# Altium integrated library Analog Devices Data Converters Digital-to-Analog Converters.IntLib: 2231 symbols (part 53 of 181)
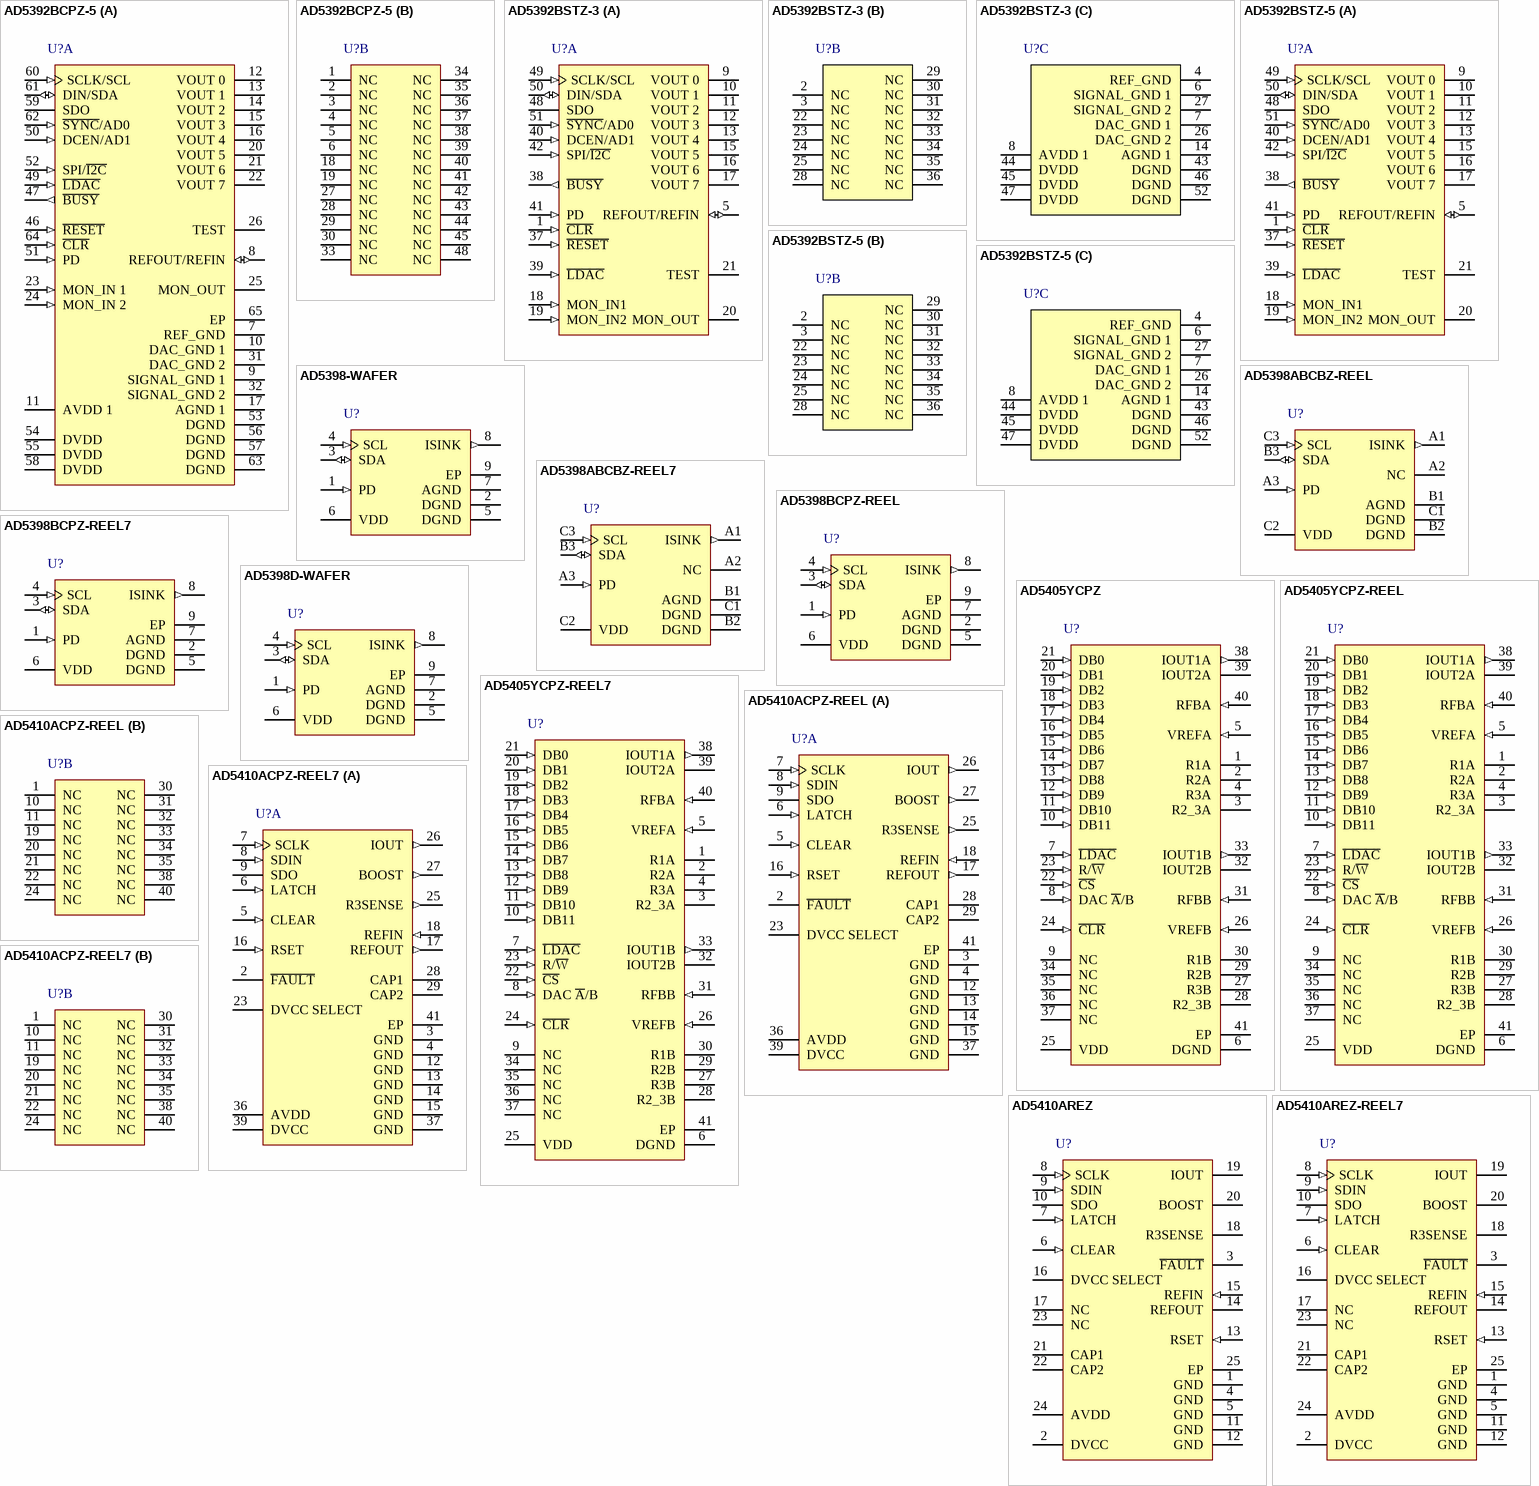
[diagram p166: symbols AD5392BCPZ-5 to AD5410AREZ-REEL7]

## AD5410ACPZ-REEL
designator U?
Single 12-Bit Current Source Digital-to-Analog Converter with Serial Interface and HART Connectivity, 4 to 20 mA, -40 to +85 degC, CP-40-1, Pb-Free, Reel; Generic Part Number: AD5410; Manufacturer: Analog Devices; PartNumber: AD5410ACPZ-REEL; # DAC Outputs: 1; Max V+: 26.4V; Resolution (Bits): 12; DatasheetVersion: Rev.D; PackageVersion: Oct-2006; PackageReference: CP-40-1; PackageDescription: 40-Pin Lead Frame Chip Scale Package [LFCSP_VQ] Very Thin Quad; Supplier 1: Digi-Key; Supplier Part Number 1: AD5410ACPZ-REELTR-ND; Supplier 2: Digi-Key; Supplier Part Number 2: AD5410ACPZ-REELCT-ND; Supplier 3: Digi-Key; Supplier Part Number 3: AD5410ACPZ-REELDKR-ND; Supplier 4: Mouser; Supplier Part Number 4: 584-AD5410ACPZ-R; Packing: Reel; RoHS: Y; Mounting Technology: Surface Mount; Code_JEDEC: MO-220-VJJD-2; ComponentLink1Description: Manufacturer URL; ComponentLink1URL: http://www.analog.com/en/index.html; ComponentLink2Description: Datasheet; ComponentLink2URL: http://www.analog.com/static/imported-files/data_sheets/AD5410_5420.pdf; ComponentLink3Description: Package Specification; ComponentLink3URL: http://www.analog.com/static/imported-files/packages/PKG_PDF/LFCSP(CP)/CP_40_1.pdf; ComponentLink4Description: Product URL; ComponentLink4URL: http://www.analog.com/en/digital-to-analog-converters/da-converters/ad5410/products/product.html; ComponentLink5Description: Reference Design URL; ComponentLink5URL: http://www.analog.com/en/digital-to-analog-converters/da-converters/ad5410/products/product.html#prod_cross_sell
footprint CP-40-1_N (QFN, 40-Leads, Body 6x6mm, Pitch 0.5mm, Thermal Pad 4.3x4.3mm, IPC Medium Density)
footprint CP-40-1_L (QFN, 40-Leads, Body 6x6mm, Pitch 0.5mm, Thermal Pad 4.3x4.3mm, IPC High Density)
footprint CP-40-1_M (QFN, 40-Leads, Body 6x6mm, Pitch 0.5mm, Thermal Pad 4.3x4.3mm, IPC Low Density)
part A pins: 2 ~{FAULT} (oc) "Fault Alert. This pin is asserted low when an open circuit is detected between IOUT and GND or an overtemperature is detected. The F\A\U\L\T\ pin is an open-drain output and must be connected to DVCC through a pull-up (See Datasheet)", 3 GND (power) "These pins must be connected to ground.", 4 GND (power) "These pins must be connected to ground.", 5 CLEAR (in) "Active High Input. Asserting this pin sets the output current to the zero-scale value, which is either 0 mA or 4 mA, depending on the output range programmed, that is, 0 mA to 20 mA, 0 mA to 24 mA, or 4 mA to 20 mA.", 6 LATCH (in) "Positive Edge Sensitive Latch. A rising edge parallel loads the input shift register data into the relevant register. In the case of the data register, the output current is also updated.", 7 SCLK (in) "Serial Clock Input. Data is clocked into the input shift register on the rising edge of SCLK. This operates at clock speeds of up to 30 MHz.", 8 SDIN (in) "Serial Data Input. Data must be valid on the rising edge of SCLK.", 9 SDO (hiz) "Serial Data Output. This pin is used to clock data from the device in daisy-chain or readback mode. Data is clocked out on the falling edge of SCLK. See Figure 3 and Figure 4.", 12 GND (power) "Ground Reference Pin.", 13 GND (power) "Ground Reference Pin.", 14 GND (power) "These pins must be connected to ground.", 15 GND (power) "These pins must be connected to ground.", 16 RSET (in) "An external, precision, low drift 15 k ohm current setting resistor can be connected to this pin to improve the overall performance of the device. See the Specifications and AD5410 Features sections.", 17 REFOUT (out) "Internal Reference Voltage Output. VREFOUT = 5 V +/- 5 mV at TA = 25degC. Typical temperature drift is 1.8 ppm/degC.", 18 REFIN (in) "External Reference Voltage Input. VREFIN = 5 V +/- 50 mV for specified performance.", 23 DVCC SELECT "This pin, when connected to GND, disables the internal supply, and an external supply must be connected to the DVCC pin. Leave this pin unconnected to enable the internal supply. See the AD5410 Features section.", 25 R3SENSE (out) "The voltage measured between this pin and the BOOST pin is directly proportional to the output current and can be used as a monitor/feedback feature. This should be used as a voltage sense output only; current should not be (See Datasheet)", 26 IOUT (out) "Current Output Pin.", 27 BOOST (out) "Optional External Transistor Connection. Connecting an external transistor reduces the power dissipated in the AD5410. See the AD5410 Features section.", 28 CAP1 "Connection for Optional Output Filtering Capacitor. See the AD5410 Features section.", 29 CAP2 "Connection for Optional Output Filtering Capacitor. See the AD5410 Features section. Also HART Input Connection, see Device Features Section.", 36 AVDD (power) "Positive Analog Supply Pin. Voltage ranges from 10.8 V to 40 V.", 37 GND (power) "These pins must be connected to ground.", 39 DVCC (power) "Digital Supply Pin. Voltage ranges from 2.7 V to 5.5 V.", 41 EP (power) "Ground Reference Connection. It is recommended that the exposed pad be thermally connected to a copper plane for enhanced thermal performance."
part B pins: 1 NC "Do not connect to these pins.", 10 NC "Do not connect to these pins.", 11 NC "Do not connect to these pins.", 19 NC "Do not connect to these pins.", 20 NC "Do not connect to these pins.", 21 NC "Do not connect to these pins.", 22 NC "Do not connect to these pins.", 24 NC "Do not connect to these pins.", 30 NC "Do not connect to these pins.", 31 NC "Do not connect to these pins.", 32 NC "Do not connect to these pins.", 33 NC "Do not connect to these pins.", 34 NC "Do not connect to these pins.", 35 NC "Do not connect to these pins.", 38 NC "Do not connect to these pins.", 40 NC "Do not connect to these pins."

## AD5410ACPZ-REEL7
designator U?
Single 12-Bit Current Source Digital-to-Analog Converter with Serial Interface and HART Connectivity, 4 to 20 mA, -40 to +85 degC, CP-40-1, Pb-Free, Reel; Generic Part Number: AD5410; Manufacturer: Analog Devices; PartNumber: AD5410ACPZ-REEL7; # DAC Outputs: 1; Max V+: 26.4V; Resolution (Bits): 12; DatasheetVersion: Rev.D; PackageVersion: Oct-2006; PackageReference: CP-40-1; PackageDescription: 40-Pin Lead Frame Chip Scale Package [LFCSP_VQ] Very Thin Quad; Supplier 1: Digi-Key; Supplier Part Number 1: AD5410ACPZ-REEL7TR-ND; Supplier 2: Digi-Key; Supplier Part Number 2: AD5410ACPZ-REEL7CT-ND; Supplier 3: Digi-Key; Supplier Part Number 3: AD5410ACPZ-REEL7DKR-ND; Supplier 4: Mouser; Supplier Part Number 4: 584-AD5410ACPZ-R7; Packing: Reel; RoHS: Y; Mounting Technology: Surface Mount; Code_JEDEC: MO-220-VJJD-2; ComponentLink1Description: Manufacturer URL; ComponentLink1URL: http://www.analog.com/en/index.html; ComponentLink2Description: Datasheet; ComponentLink2URL: http://www.analog.com/static/imported-files/data_sheets/AD5410_5420.pdf; ComponentLink3Description: Package Specification; ComponentLink3URL: http://www.analog.com/static/imported-files/packages/PKG_PDF/LFCSP(CP)/CP_40_1.pdf; ComponentLink4Description: Product URL; ComponentLink4URL: http://www.analog.com/en/digital-to-analog-converters/da-converters/ad5410/products/product.html; ComponentLink5Description: Reference Design URL; ComponentLink5URL: http://www.analog.com/en/digital-to-analog-converters/da-converters/ad5410/products/product.html#prod_cross_sell
footprint CP-40-1_N (QFN, 40-Leads, Body 6x6mm, Pitch 0.5mm, Thermal Pad 4.3x4.3mm, IPC Medium Density)
footprint CP-40-1_L (QFN, 40-Leads, Body 6x6mm, Pitch 0.5mm, Thermal Pad 4.3x4.3mm, IPC High Density)
footprint CP-40-1_M (QFN, 40-Leads, Body 6x6mm, Pitch 0.5mm, Thermal Pad 4.3x4.3mm, IPC Low Density)
part A pins: 2 ~{FAULT} (oc) "Fault Alert. This pin is asserted low when an open circuit is detected between IOUT and GND or an overtemperature is detected. The F\A\U\L\T\ pin is an open-drain output and must be connected to DVCC through a pull-up (See Datasheet)", 3 GND (power) "These pins must be connected to ground.", 4 GND (power) "These pins must be connected to ground.", 5 CLEAR (in) "Active High Input. Asserting this pin sets the output current to the zero-scale value, which is either 0 mA or 4 mA, depending on the output range programmed, that is, 0 mA to 20 mA, 0 mA to 24 mA, or 4 mA to 20 mA.", 6 LATCH (in) "Positive Edge Sensitive Latch. A rising edge parallel loads the input shift register data into the relevant register. In the case of the data register, the output current is also updated.", 7 SCLK (in) "Serial Clock Input. Data is clocked into the input shift register on the rising edge of SCLK. This operates at clock speeds of up to 30 MHz.", 8 SDIN (in) "Serial Data Input. Data must be valid on the rising edge of SCLK.", 9 SDO (hiz) "Serial Data Output. This pin is used to clock data from the device in daisy-chain or readback mode. Data is clocked out on the falling edge of SCLK. See Figure 3 and Figure 4.", 12 GND (power) "Ground Reference Pin.", 13 GND (power) "Ground Reference Pin.", 14 GND (power) "These pins must be connected to ground.", 15 GND (power) "These pins must be connected to ground.", 16 RSET (in) "An external, precision, low drift 15 k ohm current setting resistor can be connected to this pin to improve the overall performance of the device. See the Specifications and AD5410 Features sections.", 17 REFOUT (out) "Internal Reference Voltage Output. VREFOUT = 5 V +/- 5 mV at TA = 25degC. Typical temperature drift is 1.8 ppm/degC.", 18 REFIN (in) "External Reference Voltage Input. VREFIN = 5 V +/- 50 mV for specified performance.", 23 DVCC SELECT "This pin, when connected to GND, disables the internal supply, and an external supply must be connected to the DVCC pin. Leave this pin unconnected to enable the internal supply. See the AD5410 Features section.", 25 R3SENSE (out) "The voltage measured between this pin and the BOOST pin is directly proportional to the output current and can be used as a monitor/feedback feature. This should be used as a voltage sense output only; current should not be (See Datasheet)", 26 IOUT (out) "Current Output Pin.", 27 BOOST (out) "Optional External Transistor Connection. Connecting an external transistor reduces the power dissipated in the AD5410. See the AD5410 Features section.", 28 CAP1 "Connection for Optional Output Filtering Capacitor. See the AD5410 Features section.", 29 CAP2 "Connection for Optional Output Filtering Capacitor. See the AD5410 Features section. Also HART Input Connection, see Device Features Section.", 36 AVDD (power) "Positive Analog Supply Pin. Voltage ranges from 10.8 V to 40 V.", 37 GND (power) "These pins must be connected to ground.", 39 DVCC (power) "Digital Supply Pin. Voltage ranges from 2.7 V to 5.5 V.", 41 EP (power) "Ground Reference Connection. It is recommended that the exposed pad be thermally connected to a copper plane for enhanced thermal performance."
part B pins: 1 NC "Do not connect to these pins.", 10 NC "Do not connect to these pins.", 11 NC "Do not connect to these pins.", 19 NC "Do not connect to these pins.", 20 NC "Do not connect to these pins.", 21 NC "Do not connect to these pins.", 22 NC "Do not connect to these pins.", 24 NC "Do not connect to these pins.", 30 NC "Do not connect to these pins.", 31 NC "Do not connect to these pins.", 32 NC "Do not connect to these pins.", 33 NC "Do not connect to these pins.", 34 NC "Do not connect to these pins.", 35 NC "Do not connect to these pins.", 38 NC "Do not connect to these pins.", 40 NC "Do not connect to these pins."

## AD5410AREZ
designator U?
Single 12-Bit Current Source Digital-to-Analog Converter with Serial Interface and HART Connectivity, 4 to 20 mA, -40 to +85 degC, RE-24, Pb-Free, Tube; Generic Part Number: AD5410; Manufacturer: Analog Devices; PartNumber: AD5410AREZ; # DAC Outputs: 1; Max V+: 26.4V; Resolution (Bits): 12; DatasheetVersion: Rev.D; PackageVersion: 050806-A; PackageReference: RE-24; PackageDescription: 24-Lead Thin Shrink Small Outline Package, Exposed Pad [TSSOP_EP]; Supplier 1: Digi-Key; Supplier Part Number 1: AD5410AREZ-ND; Supplier 2: Farnell; Supplier Part Number 2: 1827275; Supplier 3: Newark; Supplier Part Number 3: 71P7860; Supplier 4: Mouser; Supplier Part Number 4: 584-AD5410AREZ; Packing: Tube; RoHS: Y; Mounting Technology: Surface Mount; Code_JEDEC: MO-153-ADT; ComponentLink1Description: Manufacturer URL; ComponentLink1URL: http://www.analog.com/en/index.html; ComponentLink2Description: Datasheet; ComponentLink2URL: http://www.analog.com/static/imported-files/data_sheets/AD5410_5420.pdf; ComponentLink3Description: Package Specification; ComponentLink3URL: http://www.analog.com/static/imported-files/packages/PKG_PDF/TSSOP_EP(RE)/RE_24.pdf; ComponentLink4Description: Product URL; ComponentLink4URL: http://www.analog.com/en/digital-to-analog-converters/da-converters/ad5410/products/product.html; ComponentLink5Description: Reference Design URL; ComponentLink5URL: http://www.analog.com/en/digital-to-analog-converters/da-converters/ad5410/products/product.html#prod_cross_sell
footprint RE-24_N (TSOP, 24-Leads, Body 7.8x4.4mm, Pitch 0.65mm, Thermal pad 5.02x3.25 mm, IPC Medium Density)
footprint RE-24_L (TSOP, 24-Leads, Body 7.8x4.4mm, Pitch 0.65mm, Thermal pad 5.02x3.25 mm, IPC High Density)
footprint RE-24_M (TSOP, 24-Leads, Body 7.8x4.4mm, Pitch 0.65mm, Thermal pad 5.02x3.25 mm, IPC Low Density)
pins: 1 GND (power) "These pins must be connected to ground.", 2 DVCC (power) "Digital Supply Pin. Voltage ranges from 2.7 V to 5.5 V.", 3 ~{FAULT} (hiz) "Fault Alert. This pin is asserted low when an open circuit is detected between IOUT and GND or an overtemperature is detected. The F\A\U\L\T\ pin is an open-drain output and must be connected to DVCC through a pull-up (See Datasheet)", 4 GND (power) "These pins must be connected to ground.", 5 GND (power) "These pins must be connected to ground.", 6 CLEAR (in) "Active High Input. Asserting this pin sets the output current to the zero-scale value, which is either 0 mA or 4 mA, depending on the output range programmed, that is, 0 mA to 20 mA, 0 mA to 24 mA, or 4 mA to 20 mA.", 7 LATCH (in) "Positive Edge Sensitive Latch. A rising edge parallel loads the input shift register data into the relevant register. In the case of the data register, the output current is also updated.", 8 SCLK (in) "Serial Clock Input. Data is clocked into the input shift register on the rising edge of SCLK. This operates at clock speeds of up to 30 MHz.", 9 SDIN (in) "Serial Data Input. Data must be valid on the rising edge of SCLK.", 10 SDO (hiz) "Serial Data Output. This pin is used to clock data from the device in daisy-chain or readback mode. Data is clocked out on the falling edge of SCLK. See Figure 3 and Figure 4.", 11 GND (power) "Ground Reference Pin.", 12 GND (power) "These pins must be connected to ground.", 13 RSET (in) "An external, precision, low drift 15 k ohm current setting resistor can be connected to this pin to improve the overall performance of the device. See the Specifications and AD5410 Features sections.", 14 REFOUT (hiz) "Internal Reference Voltage Output. VREFOUT = 5 V +/- 5 mV at TA = 25degC. Typical temperature drift is 1.8 ppm/degC.", 15 REFIN (in) "External Reference Voltage Input. VREFIN = 5 V +/- 50 mV for specified performance.", 16 DVCC SELECT "This pin, when connected to GND, disables the internal supply, and an external supply must be connected to the DVCC pin. Leave this pin unconnected to enable the internal supply. See the AD5410 Features section.", 17 NC "Do not connect to these pins.", 18 R3SENSE (hiz) "The voltage measured between this pin and the BOOST pin is directly proportional to the output current and can be used as a monitor/feedback feature. This should be used as a voltage sense output only; current should not be (See Datasheet)", 19 IOUT (hiz) "Current Output Pin.", 20 BOOST "Optional External Transistor Connection. Connecting an external transistor reduces the power dissipated in the AD5410. See the AD5410 Features section.", 21 CAP1 "Connection for Optional Output Filtering Capacitor. See the AD5410 Features section.", 22 CAP2 "Connection for Optional Output Filtering Capacitor. See the AD5410 Features section. Also HART Input Connection, see Device Features Section.", 23 NC "Do not connect to these pins.", 24 AVDD (power) "Positive Analog Supply Pin. Voltage ranges from 10.8 V to 40 V.", 25 EP (power) "Ground Reference Connection. It is recommended that the exposed pad be thermally connected to a copper plane for enhanced thermal performance."

## AD5410AREZ-REEL7
designator U?
Single 12-Bit Current Source Digital-to-Analog Converter with Serial Interface and HART Connectivity, 4 to 20 mA, -40 to +85 degC, RE-24, Pb-Free, Reel; Generic Part Number: AD5410; Manufacturer: Analog Devices; PartNumber: AD5410AREZ-REEL7; # DAC Outputs: 1; Max V+: 26.4V; Resolution (Bits): 12; DatasheetVersion: Rev.D; PackageVersion: 050806-A; PackageReference: RE-24; PackageDescription: 24-Lead Thin Shrink Small Outline Package, Exposed Pad [TSSOP_EP]; Supplier 1: Digi-Key; Supplier Part Number 1: AD5410AREZ-REEL7TR-ND; Supplier 2: Digi-Key; Supplier Part Number 2: AD5410AREZ-REEL7CT-ND; Supplier 3: Digi-Key; Supplier Part Number 3: AD5410AREZ-REEL7DKR-ND; Supplier 4: Newark; Supplier Part Number 4: 71P7861; Supplier 5: Mouser; Supplier Part Number 5: 584-AD5410AREZ-R7; Packing: Reel; RoHS: Y; Mounting Technology: Surface Mount; Code_JEDEC: MO-153-ADT; ComponentLink1Description: Manufacturer URL; ComponentLink1URL: http://www.analog.com/en/index.html; ComponentLink2Description: Datasheet; ComponentLink2URL: http://www.analog.com/static/imported-files/data_sheets/AD5410_5420.pdf; ComponentLink3Description: Package Specification; ComponentLink3URL: http://www.analog.com/static/imported-files/packages/PKG_PDF/TSSOP_EP(RE)/RE_24.pdf; ComponentLink4Description: Product URL; ComponentLink4URL: http://www.analog.com/en/digital-to-analog-converters/da-converters/ad5410/products/product.html; ComponentLink5Description: Reference Design URL; ComponentLink5URL: http://www.analog.com/en/digital-to-analog-converters/da-converters/ad5410/products/product.html#prod_cross_sell
footprint RE-24_N (TSOP, 24-Leads, Body 7.8x4.4mm, Pitch 0.65mm, Thermal pad 5.02x3.25 mm, IPC Medium Density)
footprint RE-24_L (TSOP, 24-Leads, Body 7.8x4.4mm, Pitch 0.65mm, Thermal pad 5.02x3.25 mm, IPC High Density)
footprint RE-24_M (TSOP, 24-Leads, Body 7.8x4.4mm, Pitch 0.65mm, Thermal pad 5.02x3.25 mm, IPC Low Density)
pins: 1 GND (power) "These pins must be connected to ground.", 2 DVCC (power) "Digital Supply Pin. Voltage ranges from 2.7 V to 5.5 V.", 3 ~{FAULT} (hiz) "Fault Alert. This pin is asserted low when an open circuit is detected between IOUT and GND or an overtemperature is detected. The F\A\U\L\T\ pin is an open-drain output and must be connected to DVCC through a pull-up (See Datasheet)", 4 GND (power) "These pins must be connected to ground.", 5 GND (power) "These pins must be connected to ground.", 6 CLEAR (in) "Active High Input. Asserting this pin sets the output current to the zero-scale value, which is either 0 mA or 4 mA, depending on the output range programmed, that is, 0 mA to 20 mA, 0 mA to 24 mA, or 4 mA to 20 mA.", 7 LATCH (in) "Positive Edge Sensitive Latch. A rising edge parallel loads the input shift register data into the relevant register. In the case of the data register, the output current is also updated.", 8 SCLK (in) "Serial Clock Input. Data is clocked into the input shift register on the rising edge of SCLK. This operates at clock speeds of up to 30 MHz.", 9 SDIN (in) "Serial Data Input. Data must be valid on the rising edge of SCLK.", 10 SDO (hiz) "Serial Data Output. This pin is used to clock data from the device in daisy-chain or readback mode. Data is clocked out on the falling edge of SCLK. See Figure 3 and Figure 4.", 11 GND (power) "Ground Reference Pin.", 12 GND (power) "These pins must be connected to ground.", 13 RSET (in) "An external, precision, low drift 15 k ohm current setting resistor can be connected to this pin to improve the overall performance of the device. See the Specifications and AD5410 Features sections.", 14 REFOUT (hiz) "Internal Reference Voltage Output. VREFOUT = 5 V +/- 5 mV at TA = 25degC. Typical temperature drift is 1.8 ppm/degC.", 15 REFIN (in) "External Reference Voltage Input. VREFIN = 5 V +/- 50 mV for specified performance.", 16 DVCC SELECT "This pin, when connected to GND, disables the internal supply, and an external supply must be connected to the DVCC pin. Leave this pin unconnected to enable the internal supply. See the AD5410 Features section.", 17 NC "Do not connect to these pins.", 18 R3SENSE (hiz) "The voltage measured between this pin and the BOOST pin is directly proportional to the output current and can be used as a monitor/feedback feature. This should be used as a voltage sense output only; current should not be (See Datasheet)", 19 IOUT (hiz) "Current Output Pin.", 20 BOOST "Optional External Transistor Connection. Connecting an external transistor reduces the power dissipated in the AD5410. See the AD5410 Features section.", 21 CAP1 "Connection for Optional Output Filtering Capacitor. See the AD5410 Features section.", 22 CAP2 "Connection for Optional Output Filtering Capacitor. See the AD5410 Features section. Also HART Input Connection, see Device Features Section.", 23 NC "Do not connect to these pins.", 24 AVDD (power) "Positive Analog Supply Pin. Voltage ranges from 10.8 V to 40 V.", 25 EP (power) "Ground Reference Connection. It is recommended that the exposed pad be thermally connected to a copper plane for enhanced thermal performance."

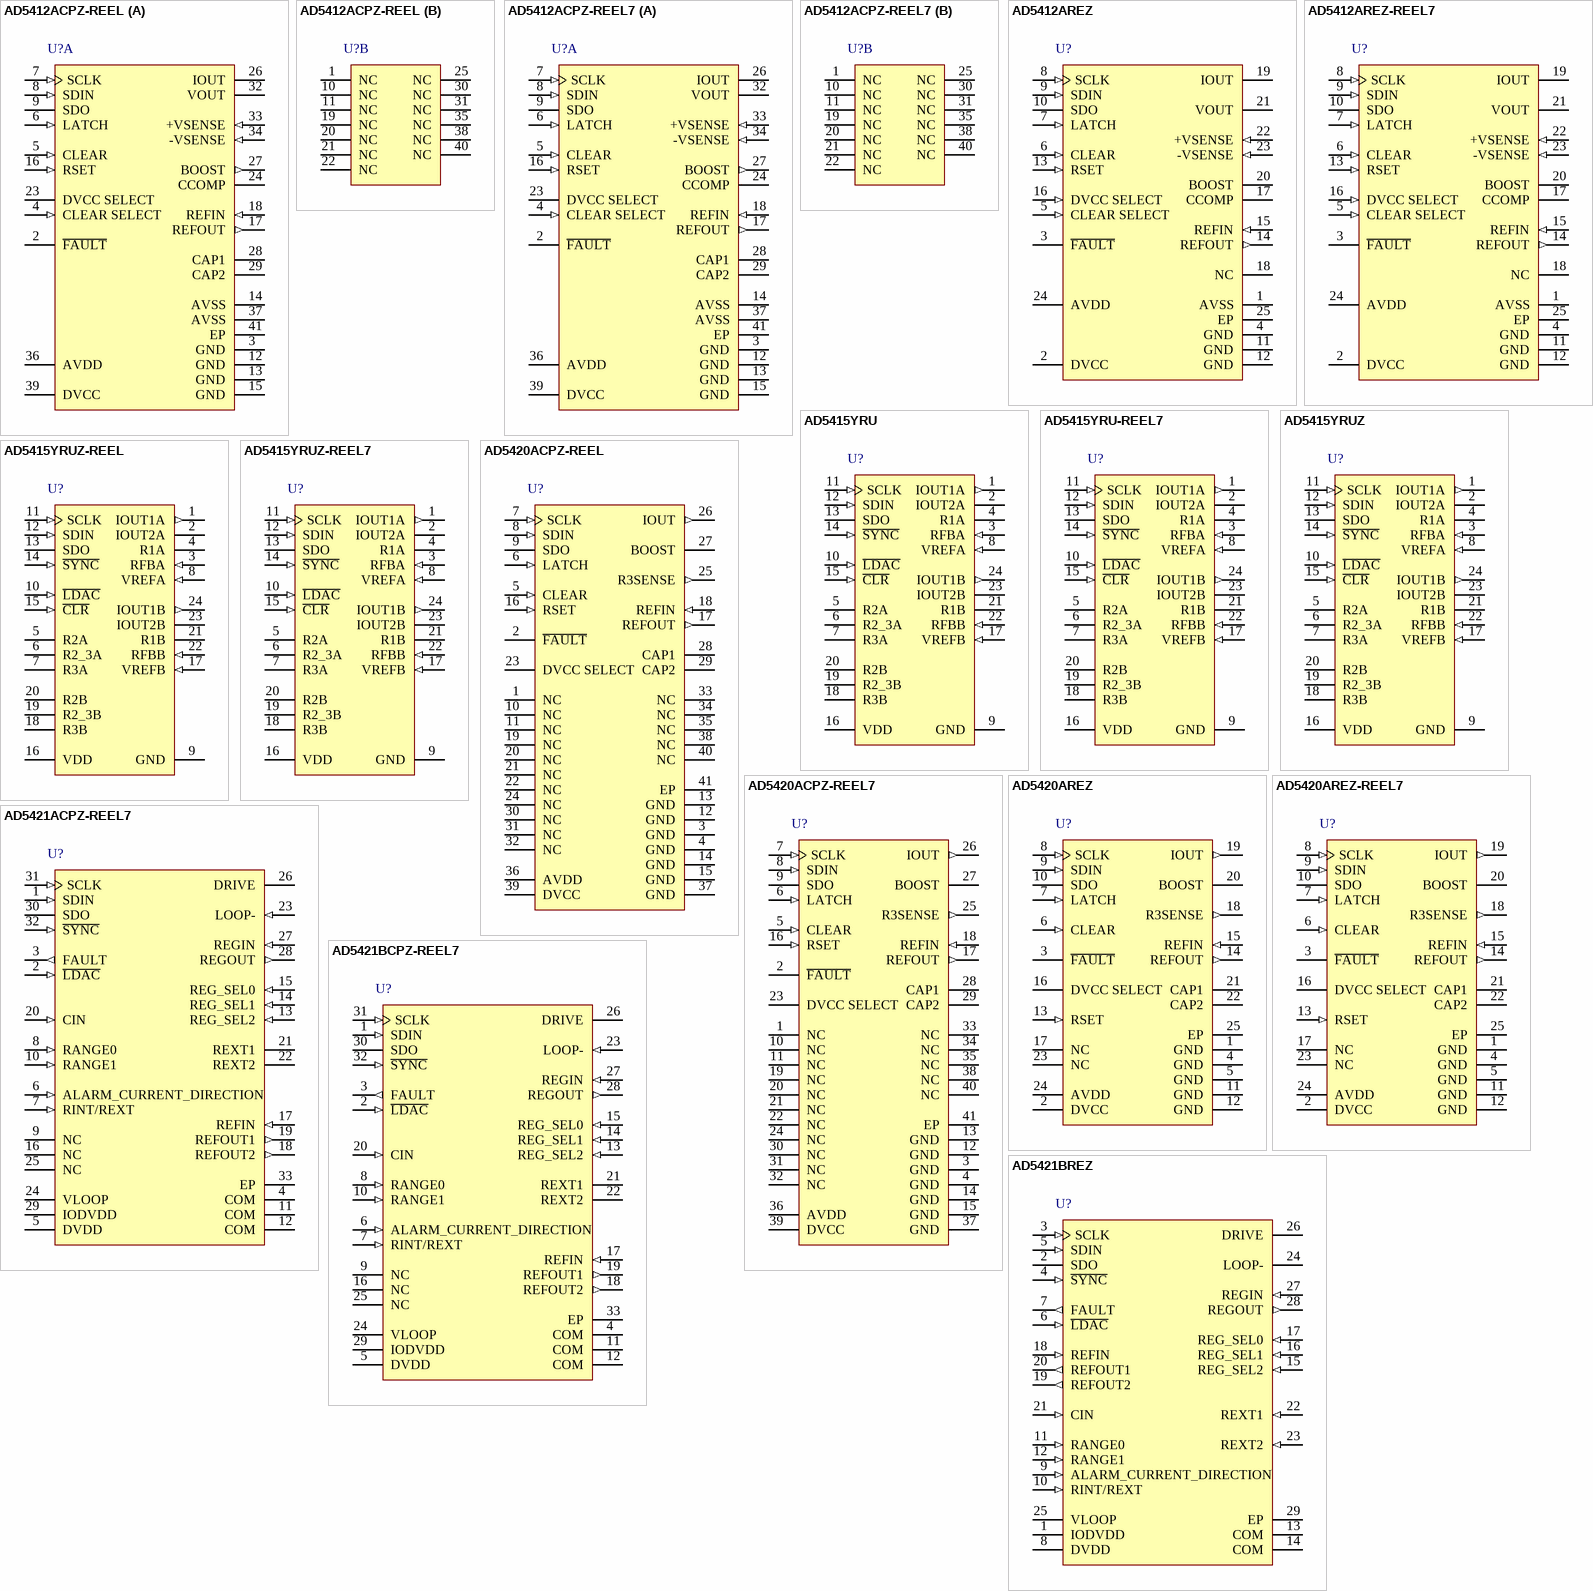
[diagram p29: symbols AD5412ACPZ-REEL to AD5421BREZ]

## AD5412ACPZ-REEL
designator U?
Single 12-Bit Current Source Digital-to-Analog Converter with Serial Interface and HART Connectivity, -40 to +85 degC, CP-40-1, Pb-Free, Reel; Generic Part Number: AD5412; Manufacturer: Analog Devices; PartNumber: AD5412ACPZ-REEL; # DAC Outputs: 1; Max V+: 40V; Op Pwr Diss: 158mW; Resolution (Bits): 12; Settling Time: 18µs; Single Supply: No; DatasheetVersion: Rev.E; PackageVersion: Oct-2006; PackageReference: CP-40-1; PackageDescription: 40-Pin Lead Frame Chip Scale Package [LFCSP_VQ] Very Thin Quad; Supplier 1: Digi-Key; Supplier Part Number 1: AD5412ACPZ-REELTR-ND; Supplier 2: Digi-Key; Supplier Part Number 2: AD5412ACPZ-REELCT-ND; Supplier 3: Digi-Key; Supplier Part Number 3: AD5412ACPZ-REELDKR-ND; Supplier 4: Newark; Supplier Part Number 4: 24R9011; Supplier 5: Mouser; Supplier Part Number 5: 584-AD5412ACPZ-R; Packing: Reel; RoHS: Y; Mounting Technology: Surface Mount; Code_JEDEC: MO-220-VJJD-2; ComponentLink1Description: Manufacturer URL; ComponentLink1URL: http://www.analog.com/en/index.html; ComponentLink2Description: Datasheet; ComponentLink2URL: http://www.analog.com/static/imported-files/data_sheets/AD5412_5422.pdf; ComponentLink3Description: Package Specification; ComponentLink3URL: http://www.analog.com/static/imported-files/packages/PKG_PDF/LFCSP(CP)/CP_40_1.pdf; ComponentLink4Description: Product URL; ComponentLink4URL: http://www.analog.com/en/digital-to-analog-converters/da-converters/ad5412/products/product.html; ComponentLink5Description: Reference Design URL; ComponentLink5URL: http://www.analog.com/en/digital-to-analog-converters/da-converters/ad5412/products/product.html#prod_cross_sell
footprint CP-40-1_N (QFN, 40-Leads, Body 6x6mm, Pitch 0.5mm, Thermal Pad 4.3x4.3mm, IPC Medium Density)
footprint CP-40-1_L (QFN, 40-Leads, Body 6x6mm, Pitch 0.5mm, Thermal Pad 4.3x4.3mm, IPC High Density)
footprint CP-40-1_M (QFN, 40-Leads, Body 6x6mm, Pitch 0.5mm, Thermal Pad 4.3x4.3mm, IPC Low Density)
part A pins: 2 ~{FAULT} (oc) "Fault Alert. This pin is asserted low when an open circuit is detected in current mode or  an overtemperature is detected. Open drain output must be connected to a pull-up resistor.", 3 GND (power) "These pins must be connected to 0 V.", 4 CLEAR SELECT (in) "Selects the voltage output clear value, either zero-scale or midscale code (see Table 21).", 5 CLEAR (in) "Active High Input. Asserting this pin sets the current output to the bottom of the selected  range or sets the voltage output to the user selected value (zero-scale or midscale).", 6 LATCH (in) "Positive Edge Sensitive Latch. A rising LATCH edge parallel loads the input shift register  data into the DAC register, also updating the output.", 7 SCLK (in) "Serial Clock Input. Data is clocked into the shift register on the rising edge of SCLK. This  operates at clock speeds of up to 30 MHz.", 8 SDIN (in) "Serial Data Input. Data must be valid on the rising edge of SCLK.", 9 SDO (hiz) "Serial Data Output. Used to clock data from the serial register in daisy-chain or readback  mode. Data is valid on the rising edge of SCLK (see Figure 3 and Figure 4).", 12 GND (power) "Ground Reference Pin.", 13 GND (power) "Ground Reference Pin.", 14 AVSS (power) "Negative Analog Supply Pin. Voltage ranges from -3 V to -24 V. This pin can be  connected to 0 V if the output voltage range is unipolar.", 15 GND (power) "These pins must be connected to 0 V.", 16 RSET (in) "An external, precision, low drift 15 kohm current setting resistor can be connected to this  pin to improve the IOUT temperature drift performance. See the AD5412 Features  section.", 17 REFOUT (out) "Internal Reference Voltage Output. REFOUT = 5 V +/- 2 mV.", 18 REFIN (in) "External Reference Voltage Input. Reference input range is 4 V to 5 V. REFIN = 5 V for a  specified performance.", 23 DVCC SELECT "When connected to GND, this pin disables the internal supply, and an external supply  must be connected to the DVCC pin. Leave this pin unconnected to enable the internal  supply. See the AD5412 Features section.", 24 CCOMP "Optional compensation capacitor connection for the voltage output buffer. Connecting  a 4 nF capacitor between this pin and the VOUT pin allows the voltage output to drive up  to 1 uF. It should be noted that the addition of (See Datasheet)", 26 IOUT (hiz) "Current Output Pin.", 27 BOOST (out) "Optional External Transistor Connection. Connecting an external transistor reduces the  power dissipated in the AD5412. See theAD5412 Features section.", 28 CAP1 "Connection for Optional Output Filtering Capacitor. See the AD5412 Features  section.", 29 CAP2 "Connection for Optional Output Filtering Capacitor. See the AD5412 Features  section.", 32 VOUT (hiz) "Buffered Analog Output Voltage. The output amplifier is capable of directly driving a  1 kohm, 2000 pF load.", 33 +VSENSE (in) "Sense connection for the positive voltage output load connection.", 34 -VSENSE (in) "Sense connection for the negative voltage output load connection.", 36 AVDD (power) "Positive Analog Supply Pin. Voltage ranges from 10.8 V to 60 V.", 37 AVSS (power) "Negative Analog Supply Pin. Voltage ranges from -3 V to -24 V. This pin can be  connected to 0 V if the output voltage range is unipolar.", 39 DVCC (power) "Digital Supply Pin. Voltage ranges from 2.7 V to 5.5 V.  This pin can also be configured as a 4.5 V LDO output by leaving the DVCC SELECT pin floating.", 41 EP (power) "Negative Analog Supply Pin. Voltage ranges from -3 V to -24 V. This paddle can be  connected to 0 V if the output voltage range is unipolar. The paddle can be left  electrically unconnected provided that a supply connection (See Datasheet)"
part B pins: 1 NC "No Connection. Do not connect to these pins.", 10 NC "No Connection. Do not connect to these pins.", 11 NC "No Connection. Do not connect to these pins.", 19 NC "No Connection. Do not connect to these pins.", 20 NC "No Connection. Do not connect to these pins.", 21 NC "No Connection. Do not connect to these pins.", 22 NC "No Connection. Do not connect to these pins.", 25 NC "No Connection. Do not connect to these pins.", 30 NC "No Connection. Do not connect to these pins.", 31 NC "No Connection. Do not connect to these pins.", 35 NC "No Connection. Do not connect to these pins.", 38 NC "No Connection. Do not connect to these pins.", 40 NC "No Connection. Do not connect to these pins."

## AD5412ACPZ-REEL7
designator U?
Single 12-Bit Current Source Digital-to-Analog Converter with Serial Interface and HART Connectivity, -40 to +85 degC, CP-40-1, Pb-Free, Reel; Generic Part Number: AD5412; Manufacturer: Analog Devices; PartNumber: AD5412ACPZ-REEL7; # DAC Outputs: 1; Max V+: 40V; Op Pwr Diss: 158mW; Resolution (Bits): 12; Settling Time: 18µs; Single Supply: No; DatasheetVersion: Rev.E; PackageVersion: Oct-2006; PackageReference: CP-40-1; PackageDescription: 40-Pin Lead Frame Chip Scale Package [LFCSP_VQ] Very Thin Quad; Supplier 1: Digi-Key; Supplier Part Number 1: AD5412ACPZ-REEL7TR-ND; Supplier 2: Digi-Key; Supplier Part Number 2: AD5412ACPZ-REEL7CT-ND; Supplier 3: Digi-Key; Supplier Part Number 3: AD5412ACPZ-REEL7DKR-ND; Supplier 4: Mouser; Supplier Part Number 4: 584-AD5412ACPZ-R7; Packing: Reel; RoHS: Y; Mounting Technology: Surface Mount; Code_JEDEC: MO-220-VJJD-2; ComponentLink1Description: Manufacturer URL; ComponentLink1URL: http://www.analog.com/en/index.html; ComponentLink2Description: Datasheet; ComponentLink2URL: http://www.analog.com/static/imported-files/data_sheets/AD5412_5422.pdf; ComponentLink3Description: Package Specification; ComponentLink3URL: http://www.analog.com/static/imported-files/packages/PKG_PDF/LFCSP(CP)/CP_40_1.pdf; ComponentLink4Description: Product URL; ComponentLink4URL: http://www.analog.com/en/digital-to-analog-converters/da-converters/ad5412/products/product.html; ComponentLink5Description: Reference Design URL; ComponentLink5URL: http://www.analog.com/en/digital-to-analog-converters/da-converters/ad5412/products/product.html#prod_cross_sell
footprint CP-40-1_N (QFN, 40-Leads, Body 6x6mm, Pitch 0.5mm, Thermal Pad 4.3x4.3mm, IPC Medium Density)
footprint CP-40-1_L (QFN, 40-Leads, Body 6x6mm, Pitch 0.5mm, Thermal Pad 4.3x4.3mm, IPC High Density)
footprint CP-40-1_M (QFN, 40-Leads, Body 6x6mm, Pitch 0.5mm, Thermal Pad 4.3x4.3mm, IPC Low Density)
part A pins: 2 ~{FAULT} (oc) "Fault Alert. This pin is asserted low when an open circuit is detected in current mode or  an overtemperature is detected. Open drain output must be connected to a pull-up resistor.", 3 GND (power) "These pins must be connected to 0 V.", 4 CLEAR SELECT (in) "Selects the voltage output clear value, either zero-scale or midscale code (see Table 21).", 5 CLEAR (in) "Active High Input. Asserting this pin sets the current output to the bottom of the selected  range or sets the voltage output to the user selected value (zero-scale or midscale).", 6 LATCH (in) "Positive Edge Sensitive Latch. A rising LATCH edge parallel loads the input shift register  data into the DAC register, also updating the output.", 7 SCLK (in) "Serial Clock Input. Data is clocked into the shift register on the rising edge of SCLK. This  operates at clock speeds of up to 30 MHz.", 8 SDIN (in) "Serial Data Input. Data must be valid on the rising edge of SCLK.", 9 SDO (hiz) "Serial Data Output. Used to clock data from the serial register in daisy-chain or readback  mode. Data is valid on the rising edge of SCLK (see Figure 3 and Figure 4).", 12 GND (power) "Ground Reference Pin.", 13 GND (power) "Ground Reference Pin.", 14 AVSS (power) "Negative Analog Supply Pin. Voltage ranges from -3 V to -24 V. This pin can be  connected to 0 V if the output voltage range is unipolar.", 15 GND (power) "These pins must be connected to 0 V.", 16 RSET (in) "An external, precision, low drift 15 kohm current setting resistor can be connected to this  pin to improve the IOUT temperature drift performance. See the AD5412 Features  section.", 17 REFOUT (out) "Internal Reference Voltage Output. REFOUT = 5 V +/- 2 mV.", 18 REFIN (in) "External Reference Voltage Input. Reference input range is 4 V to 5 V. REFIN = 5 V for a  specified performance.", 23 DVCC SELECT "When connected to GND, this pin disables the internal supply, and an external supply  must be connected to the DVCC pin. Leave this pin unconnected to enable the internal  supply. See the AD5412 Features section.", 24 CCOMP "Optional compensation capacitor connection for the voltage output buffer. Connecting  a 4 nF capacitor between this pin and the VOUT pin allows the voltage output to drive up  to 1 uF. It should be noted that the addition of (See Datasheet)", 26 IOUT (hiz) "Current Output Pin.", 27 BOOST (out) "Optional External Transistor Connection. Connecting an external transistor reduces the  power dissipated in the AD5412. See theAD5412 Features section.", 28 CAP1 "Connection for Optional Output Filtering Capacitor. See the AD5412 Features  section.", 29 CAP2 "Connection for Optional Output Filtering Capacitor. See the AD5412 Features  section.", 32 VOUT (hiz) "Buffered Analog Output Voltage. The output amplifier is capable of directly driving a  1 kohm, 2000 pF load.", 33 +VSENSE (in) "Sense connection for the positive voltage output load connection.", 34 -VSENSE (in) "Sense connection for the negative voltage output load connection.", 36 AVDD (power) "Positive Analog Supply Pin. Voltage ranges from 10.8 V to 60 V.", 37 AVSS (power) "Negative Analog Supply Pin. Voltage ranges from -3 V to -24 V. This pin can be  connected to 0 V if the output voltage range is unipolar.", 39 DVCC (power) "Digital Supply Pin. Voltage ranges from 2.7 V to 5.5 V.  This pin can also be configured as a 4.5 V LDO output by leaving the DVCC SELECT pin floating.", 41 EP (power) "Negative Analog Supply Pin. Voltage ranges from -3 V to -24 V. This paddle can be  connected to 0 V if the output voltage range is unipolar. The paddle can be left  electrically unconnected provided that a supply connection (See Datasheet)"
part B pins: 1 NC "No Connection. Do not connect to these pins.", 10 NC "No Connection. Do not connect to these pins.", 11 NC "No Connection. Do not connect to these pins.", 19 NC "No Connection. Do not connect to these pins.", 20 NC "No Connection. Do not connect to these pins.", 21 NC "No Connection. Do not connect to these pins.", 22 NC "No Connection. Do not connect to these pins.", 25 NC "No Connection. Do not connect to these pins.", 30 NC "No Connection. Do not connect to these pins.", 31 NC "No Connection. Do not connect to these pins.", 35 NC "No Connection. Do not connect to these pins.", 38 NC "No Connection. Do not connect to these pins.", 40 NC "No Connection. Do not connect to these pins."

## AD5412AREZ
designator U?
Single 12-Bit Current Source Digital-to-Analog Converter with Serial Interface and HART Connectivity, -40 to +85 degC, RE-24, Pb-Free, Tube; Generic Part Number: AD5412; Manufacturer: Analog Devices; PartNumber: AD5412AREZ; # DAC Outputs: 1; Max V+: 40V; Op Pwr Diss: 158mW; Resolution (Bits): 12; Settling Time: 18µs; Single Supply: No; DatasheetVersion: Rev.E; PackageVersion: 050806-A; PackageReference: RE-24; PackageDescription: 24-Lead Thin Shrink Small Outline Package, Exposed Pad [TSSOP_EP]; Supplier 1: Digi-Key; Supplier Part Number 1: AD5412AREZ-ND; Supplier 2: Farnell; Supplier Part Number 2: 1827277; Supplier 3: Newark; Supplier Part Number 3: 81R1726; Supplier 4: Newark; Supplier Part Number 4: 24R9013; Supplier 5: Mouser; Supplier Part Number 5: 584-AD5412AREZ; Packing: Tube; RoHS: Y; Mounting Technology: Surface Mount; Code_JEDEC: MO-153-ADT; ComponentLink1Description: Manufacturer URL; ComponentLink1URL: http://www.analog.com/en/index.html; ComponentLink2Description: Datasheet; ComponentLink2URL: http://www.analog.com/static/imported-files/data_sheets/AD5412_5422.pdf; ComponentLink3Description: Package Specification; ComponentLink3URL: http://www.analog.com/static/imported-files/packages/PKG_PDF/TSSOP_EP(RE)/RE_24.pdf; ComponentLink4Description: Product URL; ComponentLink4URL: http://www.analog.com/en/digital-to-analog-converters/da-converters/ad5412/products/product.html; ComponentLink5Description: Reference Design URL; ComponentLink5URL: http://www.analog.com/en/digital-to-analog-converters/da-converters/ad5412/products/product.html#prod_cross_sell
footprint RE-24_N (TSOP, 24-Leads, Body 7.8x4.4mm, Pitch 0.65mm, Thermal pad 5.02x3.25 mm, IPC Medium Density)
footprint RE-24_L (TSOP, 24-Leads, Body 7.8x4.4mm, Pitch 0.65mm, Thermal pad 5.02x3.25 mm, IPC High Density)
footprint RE-24_M (TSOP, 24-Leads, Body 7.8x4.4mm, Pitch 0.65mm, Thermal pad 5.02x3.25 mm, IPC Low Density)
pins: 1 AVSS (power) "Negative Analog Supply Pin. Voltage ranges from -3 V to -24 V. This pin can be connected to 0 V if the output voltage range is unipolar.", 2 DVCC (power) "Digital Supply Pin. Voltage ranges from 2.7 V to 5.5 V. This pin can also be configured as a 4.5 V LDO output by leaving the DVCC SELECT pin floating.", 3 ~{FAULT} (oc) "Fault Alert. This pin is asserted low when an open circuit is detected in current mode or an overtemperature is detected. Open drain output must be connected to a pull-up resistor.", 4 GND (power) "These pins must be connected to 0 V.", 5 CLEAR SELECT (in) "Selects the voltage output clear value, either zero-scale or midscale code (see Table 21).", 6 CLEAR (in) "Active High Input. Asserting this pin sets the current output to the bottom of the selected range or sets the voltage output to the user selected value (zero-scale or midscale).", 7 LATCH (in) "Positive Edge Sensitive Latch. A rising LATCH edge parallel loads the input shift register data into the DAC register, also updating the output.", 8 SCLK (in) "Serial Clock Input. Data is clocked into the shift register on the rising edge of SCLK. This operates at clock speeds of up to 30 MHz.", 9 SDIN (in) "Serial Data Input. Data must be valid on the rising edge of SCLK.", 10 SDO (hiz) "Serial Data Output. Used to clock data from the serial register in daisy-chain or readback mode. Data is valid on the rising edge of SCLK (see Figure 3 and Figure 4).", 11 GND (power) "Ground Reference Pin.", 12 GND (power) "These pins must be connected to 0 V.", 13 RSET (in) "An external, precision, low drift 15 k ohm current setting resistor can be connected to this pin to improve the IOUT temperature drift performance. See the AD5412 Features section.", 14 REFOUT (out) "Internal Reference Voltage Output. REFOUT = 5 V +/- 2 mV.", 15 REFIN (in) "External Reference Voltage Input. Reference input range is 4 V to 5 V. REFIN = 5 V for a specified performance.", 16 DVCC SELECT (in) "When connected to GND, this pin disables the internal supply, and an external supply must be connected to the DVCC pin. Leave this pin unconnected to enable the internal supply. See the AD5412 Features section.", 17 CCOMP "Optional compensation capacitor connection for the voltage output buffer. Connecting a 4 nF capacitor between this pin and the VOUT pin allows the voltage output to drive up to 1 uF. It should be noted that the addition of (See Datasheet)", 18 NC "No Connection. Do not connect to these pins.", 19 IOUT (hiz) "Current Output Pin.", 20 BOOST "Optional External Transistor Connection. Connecting an external transistor reduces the power dissipated in the AD5412. See theAD5412 Features section.", 21 VOUT (hiz) "Buffered Analog Output Voltage. The output amplifier is capable of directly driving a 1 k ohm, 2000 pF load.", 22 +VSENSE (in) "Sense connection for the positive voltage output load connection.", 23 -VSENSE (in) "Sense connection for the negative voltage output load connection.", 24 AVDD (power) "Positive Analog Supply Pin. Voltage ranges from 10.8 V to 60 V.", 25 EP (power) "Negative Analog Supply Pin. Voltage ranges from -3 V to -24 V. This paddle can be connected to 0 V if the output voltage range is unipolar. The paddle can be left electrically unconnected provided that a supply connection is (See Datasheet)"

## AD5412AREZ-REEL7
designator U?
Single 12-Bit Current Source Digital-to-Analog Converter with Serial Interface and HART Connectivity, -40 to +85 degC, RE-24, Pb-Free, Reel; Generic Part Number: AD5412; Manufacturer: Analog Devices; PartNumber: AD5412AREZ-REEL7; # DAC Outputs: 1; Max V+: 40V; Op Pwr Diss: 158mW; Resolution (Bits): 12; Settling Time: 18µs; Single Supply: No; DatasheetVersion: Rev.E; PackageVersion: 050806-A; PackageReference: RE-24; PackageDescription: 24-Lead Thin Shrink Small Outline Package, Exposed Pad [TSSOP_EP]; Supplier 1: Digi-Key; Supplier Part Number 1: AD5412AREZ-REEL7-ND; Supplier 2: Newark; Supplier Part Number 2: 24R9014; Supplier 3: Mouser; Supplier Part Number 3: 584-AD5412AREZ-R7; Packing: Reel; RoHS: Y; Mounting Technology: Surface Mount; Code_JEDEC: MO-153-ADT; ComponentLink1Description: Manufacturer URL; ComponentLink1URL: http://www.analog.com/en/index.html; ComponentLink2Description: Datasheet; ComponentLink2URL: http://www.analog.com/static/imported-files/data_sheets/AD5412_5422.pdf; ComponentLink3Description: Package Specification; ComponentLink3URL: http://www.analog.com/static/imported-files/packages/PKG_PDF/TSSOP_EP(RE)/RE_24.pdf; ComponentLink4Description: Product URL; ComponentLink4URL: http://www.analog.com/en/digital-to-analog-converters/da-converters/ad5412/products/product.html; ComponentLink5Description: Reference Design URL; ComponentLink5URL: http://www.analog.com/en/digital-to-analog-converters/da-converters/ad5412/products/product.html#prod_cross_sell
footprint RE-24_N (TSOP, 24-Leads, Body 7.8x4.4mm, Pitch 0.65mm, Thermal pad 5.02x3.25 mm, IPC Medium Density)
footprint RE-24_L (TSOP, 24-Leads, Body 7.8x4.4mm, Pitch 0.65mm, Thermal pad 5.02x3.25 mm, IPC High Density)
footprint RE-24_M (TSOP, 24-Leads, Body 7.8x4.4mm, Pitch 0.65mm, Thermal pad 5.02x3.25 mm, IPC Low Density)
pins: 1 AVSS (power) "Negative Analog Supply Pin. Voltage ranges from -3 V to -24 V. This pin can be connected to 0 V if the output voltage range is unipolar.", 2 DVCC (power) "Digital Supply Pin. Voltage ranges from 2.7 V to 5.5 V. This pin can also be configured as a 4.5 V LDO output by leaving the DVCC SELECT pin floating.", 3 ~{FAULT} (oc) "Fault Alert. This pin is asserted low when an open circuit is detected in current mode or an overtemperature is detected. Open drain output must be connected to a pull-up resistor.", 4 GND (power) "These pins must be connected to 0 V.", 5 CLEAR SELECT (in) "Selects the voltage output clear value, either zero-scale or midscale code (see Table 21).", 6 CLEAR (in) "Active High Input. Asserting this pin sets the current output to the bottom of the selected range or sets the voltage output to the user selected value (zero-scale or midscale).", 7 LATCH (in) "Positive Edge Sensitive Latch. A rising LATCH edge parallel loads the input shift register data into the DAC register, also updating the output.", 8 SCLK (in) "Serial Clock Input. Data is clocked into the shift register on the rising edge of SCLK. This operates at clock speeds of up to 30 MHz.", 9 SDIN (in) "Serial Data Input. Data must be valid on the rising edge of SCLK.", 10 SDO (hiz) "Serial Data Output. Used to clock data from the serial register in daisy-chain or readback mode. Data is valid on the rising edge of SCLK (see Figure 3 and Figure 4).", 11 GND (power) "Ground Reference Pin.", 12 GND (power) "These pins must be connected to 0 V.", 13 RSET (in) "An external, precision, low drift 15 k ohm current setting resistor can be connected to this pin to improve the IOUT temperature drift performance. See the AD5412 Features section.", 14 REFOUT (out) "Internal Reference Voltage Output. REFOUT = 5 V +/- 2 mV.", 15 REFIN (in) "External Reference Voltage Input. Reference input range is 4 V to 5 V. REFIN = 5 V for a specified performance.", 16 DVCC SELECT (in) "When connected to GND, this pin disables the internal supply, and an external supply must be connected to the DVCC pin. Leave this pin unconnected to enable the internal supply. See the AD5412 Features section.", 17 CCOMP "Optional compensation capacitor connection for the voltage output buffer. Connecting a 4 nF capacitor between this pin and the VOUT pin allows the voltage output to drive up to 1 uF. It should be noted that the addition of (See Datasheet)", 18 NC "No Connection. Do not connect to these pins.", 19 IOUT (hiz) "Current Output Pin.", 20 BOOST "Optional External Transistor Connection. Connecting an external transistor reduces the power dissipated in the AD5412. See theAD5412 Features section.", 21 VOUT (hiz) "Buffered Analog Output Voltage. The output amplifier is capable of directly driving a 1 k ohm, 2000 pF load.", 22 +VSENSE (in) "Sense connection for the positive voltage output load connection.", 23 -VSENSE (in) "Sense connection for the negative voltage output load connection.", 24 AVDD (power) "Positive Analog Supply Pin. Voltage ranges from 10.8 V to 60 V.", 25 EP (power) "Negative Analog Supply Pin. Voltage ranges from -3 V to -24 V. This paddle can be connected to 0 V if the output voltage range is unipolar. The paddle can be left electrically unconnected provided that a supply connection is (See Datasheet)"